# EAGLE library part CON_HE10_16P (library IUTV3)
CONNECTOR
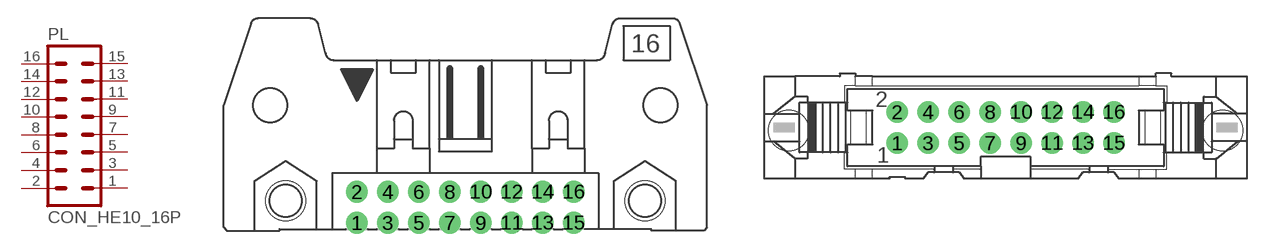
[diagram p44: symbol with the pads of 16H; footprints 16H, 16V]

Designator prefix PL

## CON_HE10_16P (MF: AMPHENOL; MOT_CLES_FARNELL: Connecteur fil-à-carte,Embase 16p horizontal a verrouillage 2.54 mm; MOT_CLES_RADIOSPARE: Embases de circuit imprimé, horizontal a verrouillage 16p 2.54 mm; MPN: T816116A1S102CEU; OC_FARNELL: 2217531)  [16H]
1  1  pas
2  2  pas
3  3  pas
4  4  pas
5  5  pas
6  6  pas
7  7  pas
8  8  pas
9  9  pas
10  10  pas
11  11  pas
12  12  pas
13  13  pas
14  14  pas
15  15  pas
16  16  pas

## CON_HE10_16PV (MF: AMPHENOL; MOT_CLES: Connecteur fil-à-carte, Embase 16p a verrouillage Traversant 2.54 mm; MOT_CLES_RADIOSPARE: Embases de circuit imprimé, a verrouillage 16p 2.54 mm; MPN: T816116A1R101CEU; OC_FARNELL: 2215279)  [16V]
Pads as for 16H

## CON_HE10_16PT (MF: HARWIN; MOT_CLES_FARNELL: Connecteur fil-à-carte,Embase 16p 2.54 mm; MOT_CLES_RADIOSPARE: Embases de circuit imprimé, Vertical Traversant 16p 2.54 mm; MPN: M20-9980846; OC_FARNELL: 1022240; OC_RADIOSPARE: 681-2966)  [MA08-2]
Pads as for 16H

## CON_HE10_16PR (MF: AMPHENOL; MOT_CLES_FARNELL: Connecteur fil-à-carte, Vertical Traversant Embase 16p 2.54 mm; MOT_CLES_RADIOSPARE: Embases de circuit imprimé Vertical Traversant 16p 2.54 mm; MPN: T821116A1S100CEU; OC_FARNELL: 2215308)  [ML16]
Pads as for 16H

## CON_HE10_16PE (MF: AMPHENOL; MOT_CLES_FARNELL: Connecteur fil-à-carte, Horizontal Traversant Embase 16p 2.54 mm; MOT_CLES_RADIOSPARE: Embases de circuit imprimé Vertical Traversant 16p 2.54 mm; MPN: T821116A1R100CEU; OC_FARNELL: 2215293)  [ML16L]
Pads as for 16H

## Footprint 16H (pad centres in mm)
CONNECTOR
drill 1 pad 1.778: 1 -8.89,-1.27; 2 -8.89,1.27; 3 -6.35,-1.27; 4 -6.35,1.27; 5 -3.81,-1.27; 6 -3.81,1.27; 7 -1.27,-1.27; 8 -1.27,1.27; 9 1.27,-1.27; 10 1.27,1.27; 11 3.81,-1.27; 12 3.81,1.27; 13 6.35,-1.27; 14 6.35,1.27; 15 8.89,-1.27; 16 8.89,1.27
hole 3.302 at -14.732,0.533
hole 3.302 at 14.732,0.533

## Footprint 16V (pad centres in mm)
CONNECTOR
drill 1 pad 1.778: 1 -8.89,-1.27; 2 -8.89,1.27; 3 -6.35,-1.27; 4 -6.35,1.27; 5 -3.81,-1.27; 6 -3.81,1.27; 7 -1.27,-1.27; 8 -1.27,1.27; 9 1.27,-1.27; 10 1.27,1.27; 11 3.81,-1.27; 12 3.81,1.27; 13 6.35,-1.27; 14 6.35,1.27; 15 8.89,-1.27; 16 8.89,1.27
hole 3.302 at 17.78,-0.254
hole 3.302 at -17.78,-0.254

## Footprint MA08-2 (pad centres in mm)
PIN HEADER
drill 1 pad 1.778: 1 -8.89,-1.27; 2 -8.89,1.27; 3 -6.35,-1.27; 4 -6.35,1.27; 5 -3.81,-1.27; 6 -3.81,1.27; 7 -1.27,-1.27; 8 -1.27,1.27; 9 1.27,-1.27; 10 1.27,1.27; 11 3.81,-1.27; 12 3.81,1.27; 13 6.35,-1.27; 14 6.35,1.27; 15 8.89,-1.27; 16 8.89,1.27

## Footprint ML16 (pad centres in mm)
HARTING
drill 1 pad 1.778: 1 -8.89,-1.27; 2 -8.89,1.27; 3 -6.35,-1.27; 4 -6.35,1.27; 5 -3.81,-1.27; 6 -3.81,1.27; 7 -1.27,-1.27; 8 -1.27,1.27; 9 1.27,-1.27; 10 1.27,1.27; 11 3.81,-1.27; 12 3.81,1.27; 13 6.35,-1.27; 14 6.35,1.27; 15 8.89,-1.27; 16 8.89,1.27

## Footprint ML16L (pad centres in mm)
HARTING
drill 1 pad 1.778: 1 -8.89,-1.27; 2 -8.89,1.27; 3 -6.35,-1.27; 4 -6.35,1.27; 5 -3.81,-1.27; 6 -3.81,1.27; 7 -1.27,-1.27; 8 -1.27,1.27; 9 1.27,-1.27; 10 1.27,1.27; 11 3.81,-1.27; 12 3.81,1.27; 13 6.35,-1.27; 14 6.35,1.27; 15 8.89,-1.27; 16 8.89,1.27